# Altium footprint library transformer.PcbLib: 1 footprints
Each footprint in its own frame and in the unit in brackets; x right, y up, seen from the top. Pads: shape width x height; smd on the part's side, far side on the other; paste and mask are expansions set on the pad; w line width, h text height; cw(c..) or ccw(c..) is an arc to the next point about the centre after c.
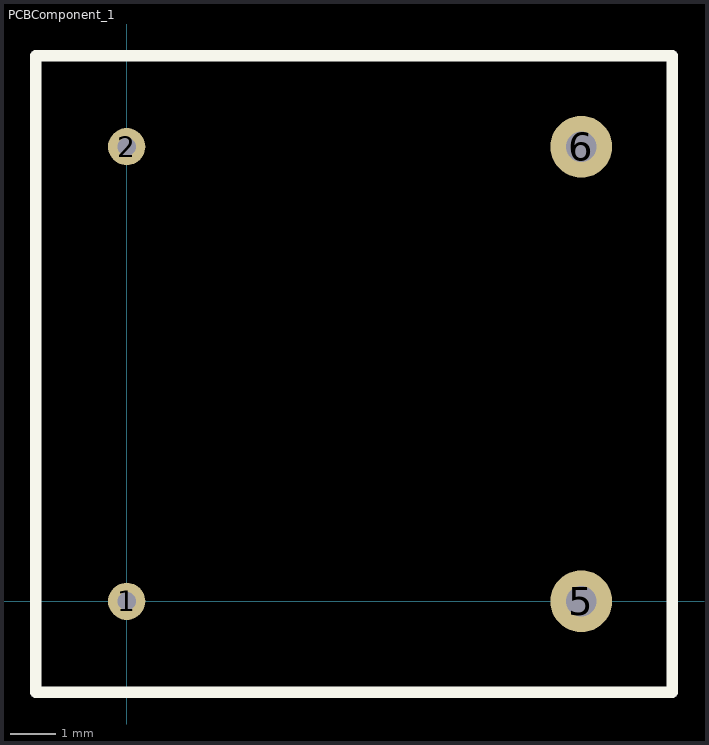
[diagram p0: the footprint, top view; thin cyan lines are the x and y axes]

## PCBComponent_1 [mm]
pads (4):
  round 0.82 hole 0.41: 1(0,0) 2(0,10)
  round 1.36 hole 0.68: 5(10,0) 6(10,10)
Top Overlay:
  lines w0.254: -2,-2 12,-2 12,12 -2,12 -2,-2